# Altium footprint library RESISTOR_2512_PWR.PcbLib: 1 footprints
Each footprint in its own frame and in the unit in brackets; x right, y up, seen from the top. Pads: shape width x height; smd on the part's side, far side on the other; paste and mask are expansions set on the pad; w line width, h text height; cw(c..) or ccw(c..) is an arc to the next point about the centre after c.
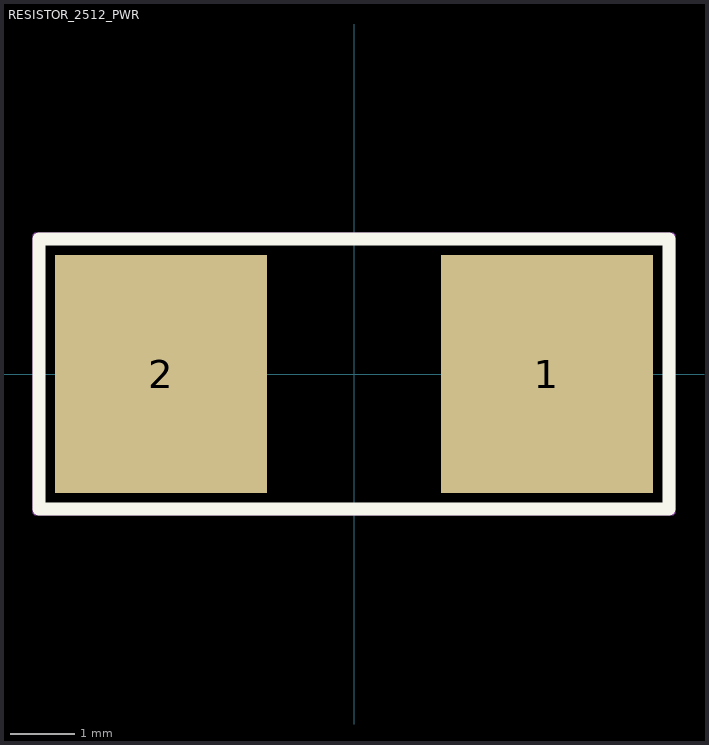
[diagram p0: the footprint, top view; thin cyan lines are the x and y axes]

## RESISTOR_2512_PWR [mm]
pads (2):
  rect 3.3x3.7 smd: 1(3,0) 2(-3,0)
Top Overlay:
  lines w0.2: -4.9,-2.1 4.9,-2.1 4.9,2.1 -4.9,2.1 -4.9,-2.1
Top Courtyard:
  lines w0.1: -4.95,-2.15 4.95,-2.15 4.95,2.15 -4.95,2.15 -4.95,-2.15
3D body "c-2176231-8-ba-3d.stp": height 1.15, standoff 0.05, extent -3.175,-1.6 3.175,1.6